# Altium footprint library 49225-0821 micro-sd.PcbLib: 1 footprints
Each footprint in its own frame and in the unit in brackets; x right, y up, seen from the top. Pads: shape width x height; smd on the part's side, far side on the other; paste and mask are expansions set on the pad; w line width, h text height; cw(c..) or ccw(c..) is an arc to the next point about the centre after c.
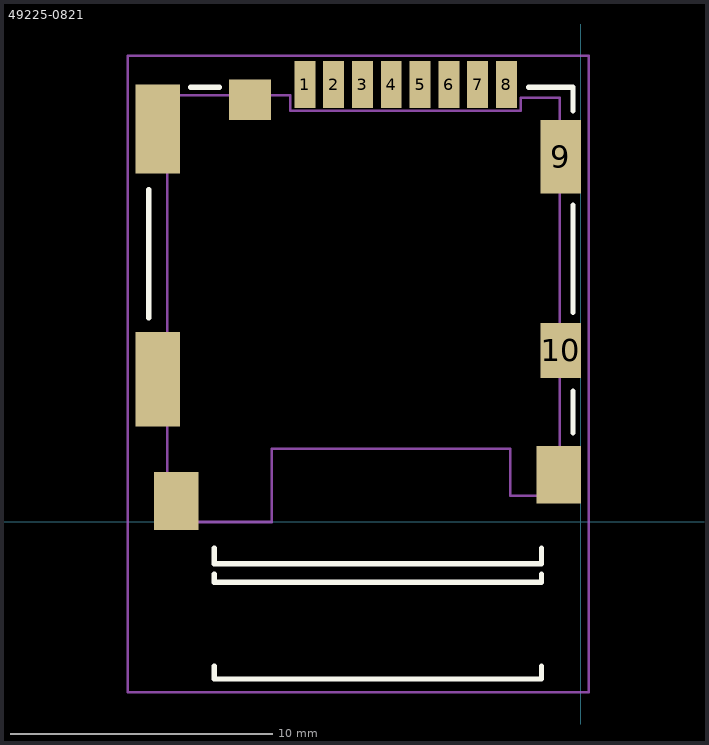
[diagram p0: the footprint, top view; thin cyan lines are the x and y axes]

## 49225-0821 [mm] "MICRO-SD slot"
height 1.95
pads (15):
  rect 0.8x1.8 smd: 1(-10.54,16.7) 2(-9.44,16.7) 3(-8.34,16.7) 4(-7.24,16.7) 5(-6.14,16.7) 6(-5.04,16.7) 7(-3.94,16.7) 8(-2.84,16.7)
  rect 1.55x2.8 smd: 9(-0.775,13.95)
  rect 1.55x2.1 smd: 10(-0.775,6.55)
  rect 1.7x3.6 smd: ""(-16.15,5.45)
  rect 1.7x3.4 smd: ""(-16.15,15)
  rect 1.7x2.2 smd: ""(-15.45,0.8) ""(-0.85,1.8)
  rect 1.6x1.55 smd: ""(-12.64,16.125)
Top Overlay:
  lines w0.2: -16.5,7.8 -16.5,12.7 ; -14.9,16.6 -13.8,16.6 ; -14,-5.5 -14,-6 -1.5,-6 -1.5,-5.5 ; -14,-2 -14,-2.3 -1.5,-2.3 -1.5,-2 ; -14,-1 -14,-1.6 -1.5,-1.6 -1.5,-1 ; -2,16.6 -0.3,16.6 -0.3,15.7 ; -0.3,3.4 -0.3,5 ; -0.3,8 -0.3,12.1
Mechanical 13:
  lines w0.1: -15.8,0 -11.8,0 -11.8,2.8 -2.7,2.8 -2.7,1 -0.8,1 -0.8,16.2 -2.3,16.2 -2.3,15.7 -11.1,15.7 -11.1,16.3 -15.8,16.3 -15.8,0
Mechanical 15:
  lines w0.1: -17.3,-6.5 -17.3,17.8 0.3,17.8 0.3,-6.5 -17.3,-6.5
3D body: height 1.95, standoff 0, extent -15.8,0 -0.8,16.3